# EAGLE library part 1986ВЕ4 (library mcu)
АЕЯР.431280.912 ТУ 1986ВЕ4У - 32-разрядный RISC-микроконтроллер с 8-канальным 24-разрядным ∑Δ АЦП с ядром Cortex-M0, работающтй на частоте 36 МГц. Производитель: ЗАО "ПКК Миландр", г. Зеленоград, Москва. Технические условия: АЕЯР.431280.912 ТУ
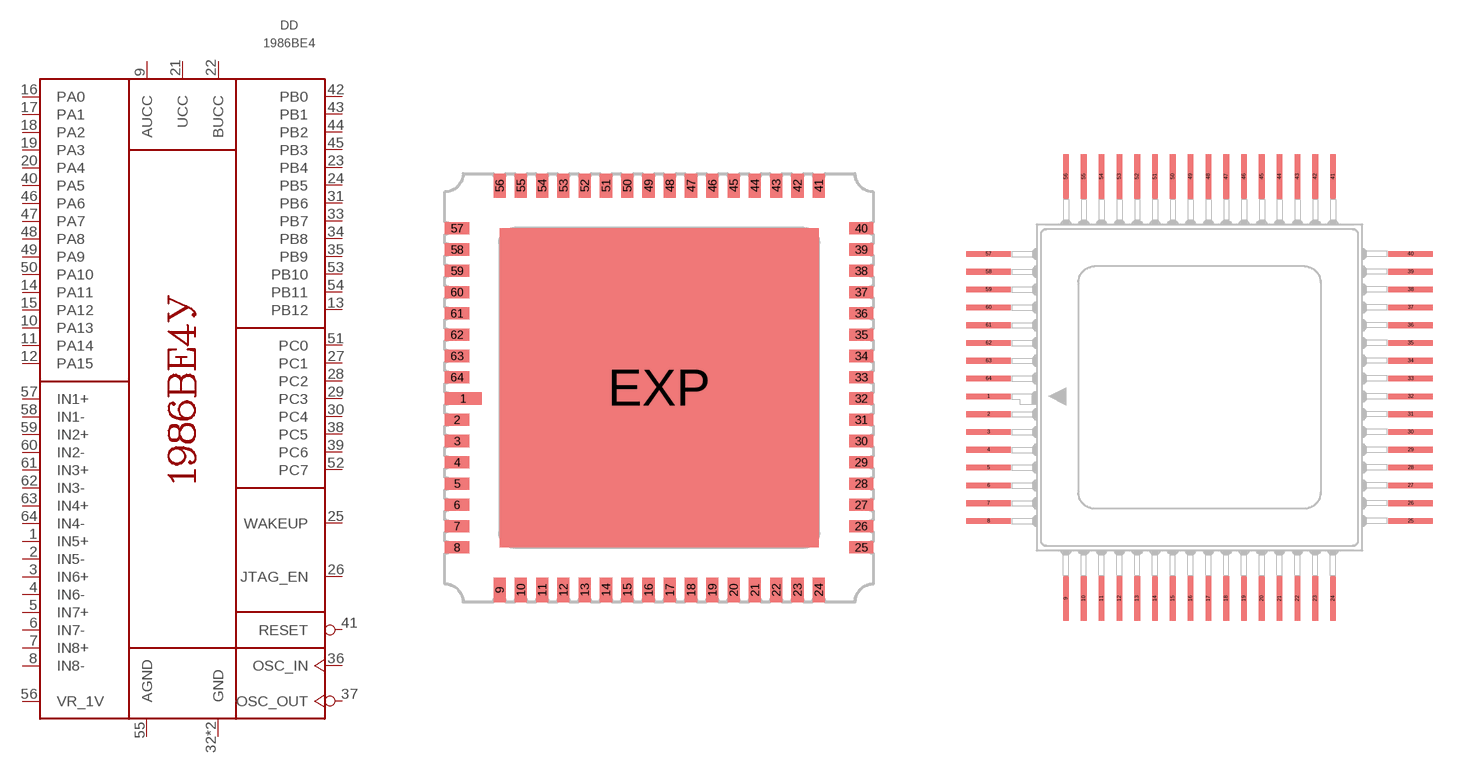
[diagram p8: symbol with the pads of 5153.64-1; footprints 5153.64-1, Н18.64-1В]

Designator prefix DD

## 1986ВЕ4У1  [5153.64-1]
1  IN5+  in
2  IN5-  in
3  IN6+  in
4  IN6-  in
5  IN7+  in
6  IN7-  in
7  IN8+  in
8  IN8-  in
9  AUCC  pwr
10  PA13
11  PA14
12  PA15
13  PB12
14  PA11
15  PA12
16  PA0
17  PA1
18  PA2
19  PA3
20  PA4
21  UCC  pwr
22  BUCC  pwr
23  PB4
24  PB5
25  WAKEUP  in
26  JTAG_EN  out
27  PC1
28  PC2
29  PC3
30  PC4
31  PB6
32  GND  pwr
33  PB7
34  PB8
35  PB9
36  OSC_IN  pwr
37  OSC_OUT  pwr
38  PC5
39  PC6
40  PA5
41  RESET  in
42  PB0
43  PB1
44  PB2
45  PB3
46  PA6
47  PA7
48  PA8
49  PA9
50  PA10
51  PC0
52  PC7
53  PB10
54  PB11
55  AGND  pwr
56  VR_1V  pwr
57  IN1+  in
58  IN1-  in
59  IN2+  in
60  IN2-  in
61  IN3+  in
62  IN3-  in
63  IN4+  in
64  IN4-  in
EXP  GND  pwr

## 1986ВЕ4У  [Н18.64-1В]
1  IN5+  in
2  IN5-  in
3  IN6+  in
4  IN6-  in
5  IN7+  in
6  IN7-  in
7  IN8+  in
8  IN8-  in
9  AUCC  pwr
10  PA13
11  PA14
12  PA15
13  PB12
14  PA11
15  PA12
16  PA0
17  PA1
18  PA2
19  PA3
20  PA4
21  UCC  pwr
22  BUCC  pwr
23  PB4
24  PB5
25  WAKEUP  in
26  JTAG_EN  out
27  PC1
28  PC2
29  PC3
30  PC4
31  PB6
32  GND  pwr
33  PB7
34  PB8
35  PB9
36  OSC_IN  pwr
37  OSC_OUT  pwr
38  PC5
39  PC6
40  PA5
41  RESET  in
42  PB0
43  PB1
44  PB2
45  PB3
46  PA6
47  PA7
48  PA8
49  PA9
50  PA10
51  PC0
52  PC7
53  PB10
54  PB11
55  AGND  pwr
56  VR_1V  pwr
57  IN1+  in
58  IN1-  in
59  IN2+  in
60  IN2-  in
61  IN3+  in
62  IN3-  in
63  IN4+  in
64  IN4-  in

## Footprint 5153.64-1 (pad centres in mm)
smd 1.22 x 0.4: 1 -6.45,-0.35
smd 0.8 x 0.4: 2 -6.65,-1.05; 3 -6.65,-1.75; 4 -6.65,-2.45; 5 -6.65,-3.15; 6 -6.65,-3.85; 7 -6.65,-4.55; 8 -6.65,-5.25; 25 6.65,-5.25; 26 6.65,-4.55; 27 6.65,-3.85; 28 6.65,-3.15; 29 6.65,-2.45; 30 6.65,-1.75; 31 6.65,-1.05; 32 6.65,-0.35; 33 6.65,0.35; 34 6.65,1.05; 35 6.65,1.75; 36 6.65,2.45; 37 6.65,3.15; 38 6.65,3.85; 39 6.65,4.55; 40 6.65,5.25; 57 -6.65,5.25; 58 -6.65,4.55; 59 -6.65,3.85; 60 -6.65,3.15; 61 -6.65,2.45; 62 -6.65,1.75; 63 -6.65,1.05; 64 -6.65,0.35
smd 0.4 x 0.8: 9 -5.25,-6.65; 10 -4.55,-6.65; 11 -3.85,-6.65; 12 -3.15,-6.65; 13 -2.45,-6.65; 14 -1.75,-6.65; 15 -1.05,-6.65; 16 -0.35,-6.65; 17 0.35,-6.65; 18 1.05,-6.65; 19 1.75,-6.65; 20 2.45,-6.65; 21 3.15,-6.65; 22 3.85,-6.65; 23 4.55,-6.65; 24 5.25,-6.65; 41 5.25,6.65; 42 4.55,6.65; 43 3.85,6.65; 44 3.15,6.65; 45 2.45,6.65; 46 1.75,6.65; 47 1.05,6.65; 48 0.35,6.65; 49 -0.35,6.65; 50 -1.05,6.65; 51 -1.75,6.65; 52 -2.45,6.65; 53 -3.15,6.65; 54 -3.85,6.65; 55 -4.55,6.65; 56 -5.25,6.65
smd 10.5 x 10.5: EXP 0,0

## Footprint Н18.64-1В (pad centres in mm)
smd 2.5 x 0.32: 1 -11.85,-0.5; 2 -11.85,-1.5; 3 -11.85,-2.5; 4 -11.85,-3.5; 5 -11.85,-4.5; 6 -11.85,-5.5; 7 -11.85,-6.5; 8 -11.85,-7.5; 25 11.85,-7.5; 26 11.85,-6.5; 27 11.85,-5.5; 28 11.85,-4.5; 29 11.85,-3.5; 30 11.85,-2.5; 31 11.85,-1.5; 32 11.85,-0.5; 33 11.85,0.5; 34 11.85,1.5; 35 11.85,2.5; 36 11.85,3.5; 37 11.85,4.5; 38 11.85,5.5; 39 11.85,6.5; 40 11.85,7.5; 57 -11.85,7.5; 58 -11.85,6.5; 59 -11.85,5.5; 60 -11.85,4.5; 61 -11.85,3.5; 62 -11.85,2.5; 63 -11.85,1.5; 64 -11.85,0.5
smd 0.32 x 2.5: 9 -7.5,-11.85; 10 -6.5,-11.85; 11 -5.5,-11.85; 12 -4.5,-11.85; 13 -3.5,-11.85; 14 -2.5,-11.85; 15 -1.5,-11.85; 16 -0.5,-11.85; 17 0.5,-11.85; 18 1.5,-11.85; 19 2.5,-11.85; 20 3.5,-11.85; 21 4.5,-11.85; 22 5.5,-11.85; 23 6.5,-11.85; 24 7.5,-11.85; 41 7.5,11.85; 42 6.5,11.85; 43 5.5,11.85; 44 4.5,11.85; 45 3.5,11.85; 46 2.5,11.85; 47 1.5,11.85; 48 0.5,11.85; 49 -0.5,11.85; 50 -1.5,11.85; 51 -2.5,11.85; 52 -3.5,11.85; 53 -4.5,11.85; 54 -5.5,11.85; 55 -6.5,11.85; 56 -7.5,11.85